# EAGLE library part ＴＬＭ９２２Ｓ－Ｐ０１Ａ (library LORAM)
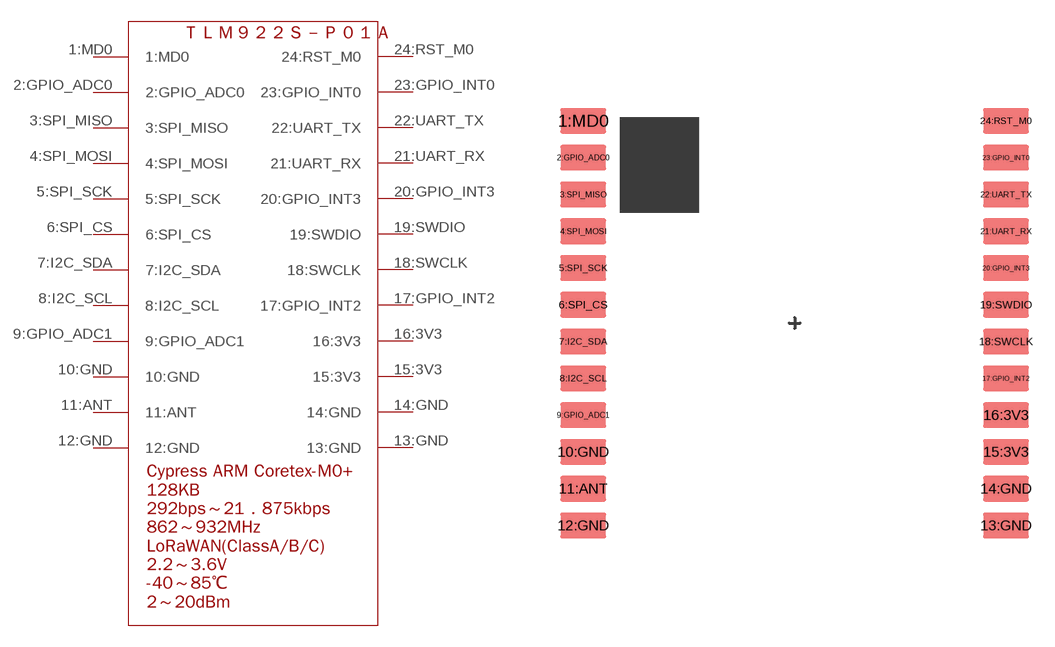
[diagram p0: symbol with the pads of TLM922S-P01A; footprint TLM922S-P01A]

Designator prefix -

## ＴＬＭ９２２Ｓ－Ｐ０１Ａ  [TLM922S-P01A]
1:MD0  1:MD0
2:GPIO_ADC0  2:GPIO_ADC0
3:SPI_MISO  3:SPI_MISO
4:SPI_MOSI  4:SPI_MOSI
5:SPI_SCK  5:SPI_SCK
6:SPI_CS  6:SPI_CS
7:I2C_SDA  7:I2C_SDA
8:I2C_SCL  8:I2C_SCL
9:GPIO_ADC1  9:GPIO_ADC1
10:GND  10:GND
11:ANT  11:ANT
12:GND  12:GND
13:GND  13:GND
14:GND  14:GND
15:3V3  15:3V3
16:3V3  16:3V3
17:GPIO_INT2  17:GPIO_INT2
18:SWCLK  18:SWCLK
19:SWDIO  19:SWDIO
20:GPIO_INT3  20:GPIO_INT3
21:UART_RX  21:UART_RX
22:UART_TX  22:UART_TX
23:GPIO_INT0  23:GPIO_INT0
24:RST_M0  24:RST_M0

## Footprint TLM922S-P01A (pad centres in mm)
smd 2.5 x 1.4: 1:MD0 -11.5,11; 2:GPIO_ADC0 -11.5,9; 3:SPI_MISO -11.5,7; 4:SPI_MOSI -11.5,5; 5:SPI_SCK -11.5,3; 6:SPI_CS -11.5,1; 7:I2C_SDA -11.5,-1; 8:I2C_SCL -11.5,-3; 9:GPIO_ADC1 -11.5,-5; 10:GND -11.5,-7; 11:ANT -11.5,-9; 12:GND -11.5,-11; 13:GND 11.5,-11; 14:GND 11.5,-9; 15:3V3 11.5,-7; 16:3V3 11.5,-5; 17:GPIO_INT2 11.5,-3; 18:SWCLK 11.5,-1; 19:SWDIO 11.5,1; 20:GPIO_INT3 11.5,3; 21:UART_RX 11.5,5; 22:UART_TX 11.5,7; 23:GPIO_INT0 11.5,9; 24:RST_M0 11.5,11